# Altium footprint library InductorsLM51420.PcbLib: 2 footprints
Each footprint in its own frame and in the unit in brackets; x right, y up, seen from the top. Pads: shape width x height; smd on the part's side, far side on the other; paste and mask are expansions set on the pad; w line width, h text height; cw(c..) or ccw(c..) is an arc to the next point about the centre after c.
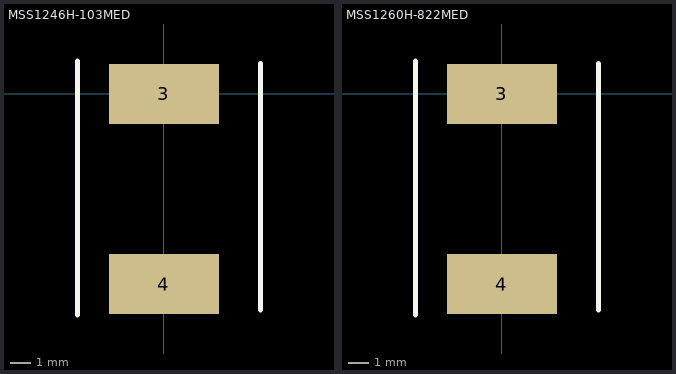
[diagram p0: the footprints below, top view; thin cyan lines are the x and y axes]

## MSS1246H-103MED [mm] "10uH"
pads (2):
  rect 5.5x3 smd: 3(0,0) 4(0,-9.5)
Top Overlay:
  lines w0.254: -4.318,-11.049 -4.318,1.651 ; 4.826,-10.795 4.826,1.524

## MSS1260H-822MED [mm] "8.2uH SMD"
pads (2):
  rect 5.5x3 smd: 3(0,0) 4(0,-9.5)
Top Overlay:
  lines w0.254: -4.318,-11.049 -4.318,1.651 ; 4.826,-10.795 4.826,1.524